# EAGLE library part 2510-6002 (library 4534)
3M 2510-6002 Walled Header
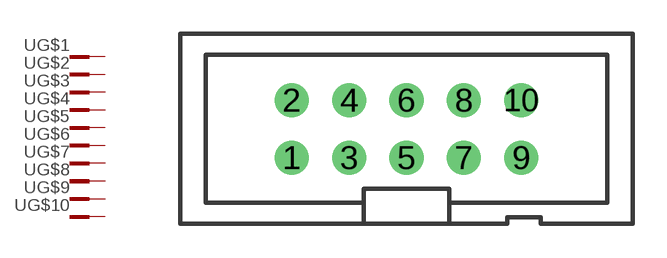
[diagram p7: symbol with the pads of 2510-6002; footprint 2510-6002]

Designator prefix -; gates G$1=PINV G$2=PINV G$3=PINV G$4=PINV G$5=PINV G$6=PINV G$7=PINV G$8=PINV G$9=PINV G$10=PINV

## 2510-6002  [2510-6002]
1  G$1:KL  pas
2  G$2:KL  pas
3  G$3:KL  pas
4  G$4:KL  pas
5  G$5:KL  pas
6  G$6:KL  pas
7  G$7:KL  pas
8  G$8:KL  pas
9  G$9:KL  pas
10  G$10:KL  pas

## Footprint 2510-6002 (pad centres in mm)
3M 2510-6002 Walled Header
drill 1 pad 1.422: 1 -5.08,-1.27; 2 -5.08,1.27; 3 -2.54,-1.27; 4 -2.54,1.27; 5 0,-1.27; 6 0,1.27; 7 2.54,-1.27; 8 2.54,1.27; 9 5.08,-1.27; 10 5.08,1.27